# EAGLE library part ST_LIS331DLH (library m_ic-signal)
ST LIS331DLH MEMS digital output motion sensor ultra low-power high performance 3-axes “nano” accelerometer Features Wide supply voltage, 2.16 V to 3.6 V Low voltage compatible IOs, 1.8 V Ultra low-power mode consumption down to 10 μA ±2g/±4g/±8g dynamically selectable full-scale I2C/SPI digital output interface 16 bit data output 2 independent programmable interrupt generators for free-fall and motion detection Sleep to wake-up function 6D orientation detection Embedded self-test 10000 g high shock survivability ECOP ACK® RoHS and “Green” compliant (see Section 8) Applications Motion activated functions Free-fall detection Intelligent power saving for handheld devices Pedometer Display orientation Gaming and virtual reality input devices Impact recognition and logging Vibration monitoring and compensation Description The LIS331DLH is an ultra low-power high performance three axes linear accelerometer belonging to the “nano” family, with digital I2C/SPI serial interface standard output. The device features ultra low-power operational modes that allow advanced power saving and smart sleep to wake-up functions. The LIS331DLH has dynamically user selectable full scales of ±2g/±4g/±8g and it is capable of measuring accelerations with output data rates from 0.5 Hz to 1 kHz. The self-test capability allows the user to check the functioning of the sensor in the final application. The device may be configured to generate interrupt signal by inertial wake-up/free-fall events as well as by the position of the device itself. Thresholds and timing of interrupt generators are programmable by the end user on the fly. The LIS331DLH is available in small thin plastic land grid array package (LGA) and it is guaranteed to operate over an extended temperature range from -40 °C to +85 °C. Data from ST Doc ID 15094 Rev 3, July 2009 Octopart <https://octopart.com/search?q=LIS331DLH>
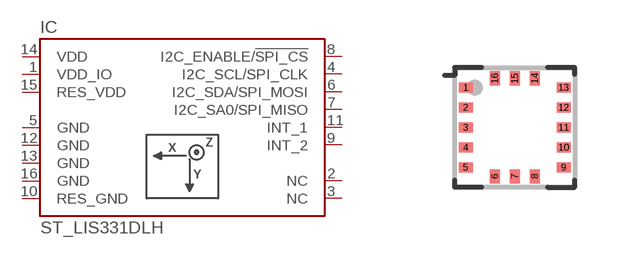
[diagram p11: symbol with the pads of LGA16; footprint LGA16]

Designator prefix IC

## ST_LIS331DLH (MANUF: ST; PARTNUM: LIS331DLH)  [LGA16]
1  VDD_IO  pas
2  NC  pas
3  NC  pas
4  I2C_SCL/SPI_CLK  pas
5  GND  pas
6  I2C_SDA/SPI_MOSI  pas
7  I2C_SA0/SPI_MISO  pas
8  I2C_ENABLE/!SPI_CS!  pas
9  INT_2  pas
10  RES_GND  pas
11  INT_1  pas
12  GND  pas
13  GND  pas
14  VDD  pas
15  RES_VDD  pas
16  GND  pas

## Footprint LGA16 (pad centres in mm)
LGA16 3mm x 3mm Based on data from ST LIS331DLH datasheet, DOC ID 15094 Rev. 3, Kionix TN009 "PCB Design Guidelines for 3x3 LGA Accelerometers", 2015-07-10.
smd 0.35 x 0.25: 1 -1.225,1; 2 -1.225,0.5; 3 -1.225,0; 4 -1.225,-0.5; 5 -1.225,-1; 9 1.225,-1; 10 1.225,-0.5; 11 1.225,0; 12 1.225,0.5; 13 1.225,1
smd 0.25 x 0.35: 6 -0.5,-1.225; 7 0,-1.225; 8 0.5,-1.225; 14 0.5,1.225; 15 0,1.225; 16 -0.5,1.225